# Altium schematic symbol library Miner_8TH.SchLib: 26 symbols
Pins are listed as number, name and electrical type; pins without a type are passive.

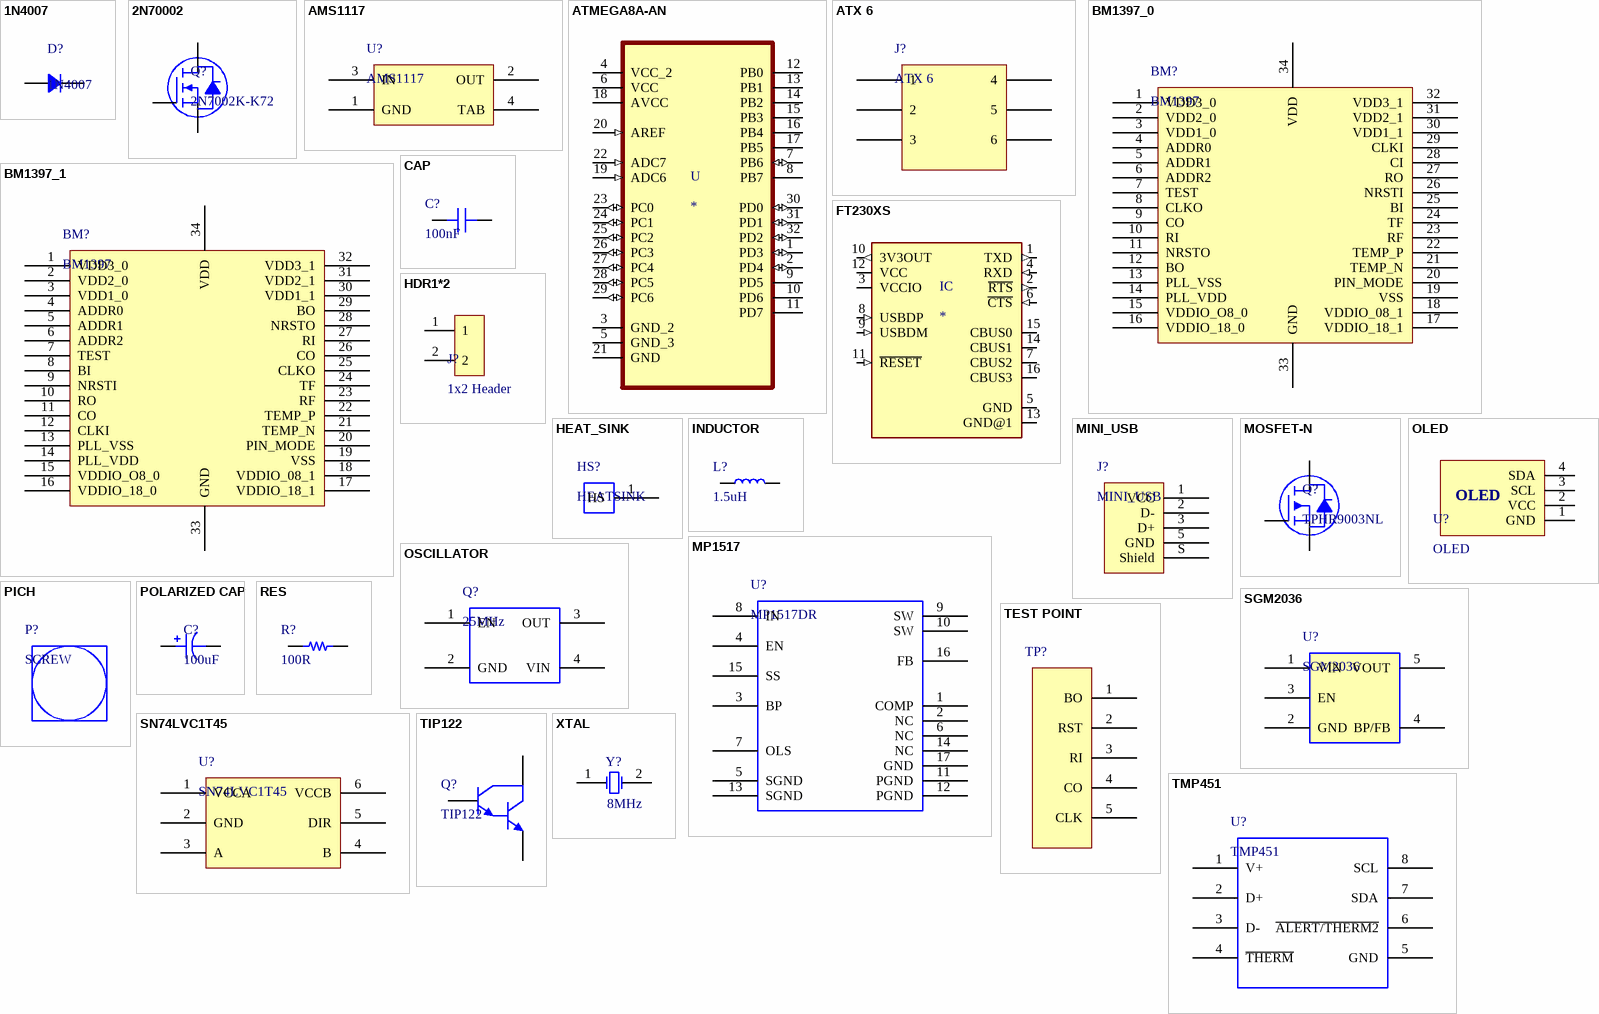
[diagram p0: symbols 1N4007 to XTAL]

## 1N4007
designator D?
footprint m7
pins: 1, 2

## 2N70002
designator Q?, comment 2N7002K-K72
footprint SOT-23_H (SOT23, 3-Leads, Body 2.9x1.3mm, Pitch 0.95mm, Lead Span 2.5mm, IPC Medium Density)
pins: 1, 2, 3

## AMS1117
designator U?
footprint AMS1117
pins: 1 GND, 2 OUT, 3 IN, 4 TAB

## ATMEGA8A-AN
designator U
AVR AVRÂ® ATmega Microcontroller IC 8-Bit 16MHz 8KB (4K x 16) FLASH 32-TQFP (7x7); MF: Microchip; MP: ATMEGA8A-AN; SnapEDA_Link: https://www.snapeda.com/parts/ATMEGA8A-AN/Microchip/view-part/883838/?ref=snap; Value: *; DigiKey-Purchase-URL: https://snapeda.com/shop?store=DigiKey&id=883838; Package: TQFP-32 Microchip; Price: None; Availability: Warning; Mouser-Purchase-URL: https://snapeda.com/shop?store=Mouser&id=883838
footprint QFP80P900X900X120-32N
pins: 1 PD3 (io), 2 PD4 (io), 3 GND_2, 4 VCC_2 (power), 5 GND_3, 6 VCC (power), 7 PB6 (io), 8 PB7, 9 PD5, 10 PD6, 11 PD7, 12 PB0, 13 PB1, 14 PB2, 15 PB3, 16 PB4, 17 PB5, 18 AVCC (power), 19 ADC6 (in), 20 AREF (in), 21 GND, 22 ADC7 (in), 23 PC0 (io), 24 PC1 (io), 25 PC2 (io), 26 PC3 (io), 27 PC4 (io), 28 PC5 (io), 29 PC6 (io), 30 PD0 (io), 31 PD1 (io), 32 PD2 (io)

## ATX 6
designator J?
footprint ATX 6
pins: 1, 2, 3, 4, 5, 6

## BM1397_0
designator BM?, comment BM1397
footprint BM1387
pins: 1 VDD3_0, 2 VDD2_0, 3 VDD1_0, 4 ADDR0, 5 ADDR1, 6 ADDR2, 7 TEST, 8 CLKO, 9 CO, 10 RI, 11 NRSTO, 12 BO, 13 PLL_VSS, 14 PLL_VDD, 15 VDDIO_O8_0, 16 VDDIO_18_0, 17 VDDIO_18_1, 18 VDDIO_08_1, 19 VSS, 20 PIN_MODE, 21 TEMP_N, 22 TEMP_P, 23 RF, 24 TF, 25 BI, 26 NRSTI, 27 RO, 28 CI, 29 CLKI, 30 VDD1_1, 31 VDD2_1, 32 VDD3_1, 33 GND, 34 VDD

## BM1397_1
designator BM?, comment BM1397
footprint BM1387
pins: 1 VDD3_0, 2 VDD2_0, 3 VDD1_0, 4 ADDR0, 5 ADDR1, 6 ADDR2, 7 TEST, 8 BI, 9 NRSTI, 10 RO, 11 CO, 12 CLKI, 13 PLL_VSS, 14 PLL_VDD, 15 VDDIO_O8_0, 16 VDDIO_18_0, 17 VDDIO_18_1, 18 VDDIO_08_1, 19 VSS, 20 PIN_MODE, 21 TEMP_N, 22 TEMP_P, 23 RF, 24 TF, 25 CLKO, 26 CO, 27 RI, 28 NRSTO, 29 BO, 30 VDD1_1, 31 VDD2_1, 32 VDD3_1, 33 GND, 34 VDD

## CAP
designator C?, comment 100nF
footprint CAP_SMD_0805
footprint CAP-SMD-0603
pins: 1, 2

## FT230XS
designator IC
USB Bridge, USB to UART USB 2.0 UART Interface 16-SSOP; MP: FT230XS; MF: FTDI, Future; Price: None; Availability: Unavailable; Package: SSOP-16 FTDI; SnapEDA_Link: https://www.snapeda.com/parts/FT230XS/FTDI%2C%20Future%20Technology%20Devices%20International%20Ltd/view-part/433817/?ref=snap; Value: *
footprint SSOP16
pins: 1 TXD (out), 2 ~{RTS} (out), 3 VCCIO (power), 4 RXD (in), 5 GND (power), 6 ~{CTS} (in), 7 CBUS2 (io), 8 USBDP (in), 9 USBDM (in), 10 3V3OUT (out), 11 ~{RESET} (in), 12 VCC (power), 13 GND@1 (power), 14 CBUS1 (io), 15 CBUS0 (io), 16 CBUS3 (io)

## HDR1*2
designator J?, comment 1x2 Header
Headers & Wire Housings 2 PIN F/LK HEADER; Manufacturer: Molex; Number of Positions: 2; Gender: Male; Contact Resistance: 10mR; Current Rating: 4A; Voltage Rating: 250V; Pitch: 2.54mm; Glow Wire Compliant: Non-compliant; Supplier 1: Digi-Key; Manufacturer Part Number: 22-29-2021; Stock 1: 17589; Pricing 1: 1=0.46, 10=0.431, 100=0.3014, 500=0.2583, 1000=0.21525, 5000=0.1845, 10000=0.1722 (USD); Mount: Through Hole; Housing Colour: White; Colour: White; Housing Material: Nylon; Contact Plating: Gold; Contact Material: Brass; Min Operating Temperature: 0°C; Max Operating Temperature: 75°C; Number of Rows: 1; Packaging: Bulk; Termination: Through Hole; Orientation: Straight; Number of Contacts: 2; Package Quantity: 2500; Number of Circuits: 2; Max Current Rating: 4A; Max Voltage Rating (AC): 250V; Voltage Rating (DC): 250V; Length: 12.7mm; Height: 11.7mm; Depth: 5.8mm; Radiation Hardening: No; Lead Free: Lead Free; REACH SVHC: Unknown; Halogen Free: Low Halogen; Flammability Rating: UL94 V-0; ComponentLink1URL: https://datasheet.ciiva.com/30169/113840022292021-pcb-headers-30169888.pdf; ComponentLink1Description: https://datasheet.ciiva.com/30169/113840022292021-pcb-headers-30169888.pdf; ComponentLink2URL: https://datasheet.ciiva.com/19472/879588-19472951.pdf; ComponentLink2Description: https://datasheet.ciiva.com/19472/879588-19472951.pdf; ComponentLink3URL: https://datasheet.ciiva.com/11752/0900766b80d5fb7a-11752634.pdf; ComponentLink3Description: https://datasheet.ciiva.com/11752/0900766b80d5fb7a-11752634.pdf; ComponentLink4URL: https://datasheet.ciiva.com/5153/0022292021-pcb-headers-159390-5153053.pdf; ComponentLink4Description: https://datasheet.ciiva.com/5153/0022292021-pcb-headers-159390-5153053.pdf; ComponentLink5URL: https://datasheet.ciiva.com/9468/0022292021-pcb-headers-9468301.pdf; ComponentLink5Description: https://datasheet.ciiva.com/9468/0022292021-pcb-headers-9468301.pdf; ComponentLink6URL: https://datasheet.ciiva.com/25908/0022292021-pcb-headers-25908286.pdf; ComponentLink6Description: https://datasheet.ciiva.com/25908/0022292021-pcb-headers-25908286.pdf; Supplier Part Number 1: WM2744-ND; Category: Connectors
footprint HDR1*2
pins: 1, 2

## HEAT_SINK
designator HS?, comment HEATSINK
footprint HEAT_SINK
pins: 1 HS

## INDUCTOR
designator L?, comment 1.5uH
footprint IND
pins: 1, 2

## MINI_USB
designator J?
footprint Mini_usb
pins: 1 VCC, 2 D-, 3 D+, 5 GND, S Shield

## MOSFET-N
designator Q?, comment TPHR9003NL
footprint ADVANCE SOP
pins: D, G, S

## MP1517
designator U?, comment MP1517DR
footprint QFN80P500X500X80-17N
pins: 1 COMP, 2 NC, 3 BP, 4 EN, 5 SGND, 6 NC, 7 OLS, 8 IN, 9 SW, 10 SW, 11 PGND, 12 PGND, 13 SGND, 14 NC, 15 SS, 16 FB, 17 GND

## OLED
designator U?
footprint OLED
pins: 1 GND, 2 VCC, 3 SCL, 4 SDA

## OSCILLATOR
designator Q?, comment 25MHz
footprint XTALL
pins: 1 EN, 2 GND, 3 OUT, 4 VIN

## PICH
designator P?, comment SCREW
footprint PICH

## POLARIZED CAP
designator C?, comment 100uF
footprint CAP-TAN-CASE-B
footprint CAP-TAN-CASE-E
footprint CAP-TAN-CASE-A
footprint CAP ALUM 10.3MM (Aluminum Electrolytic Capacitor, Body 10.30x10.30x10.50mm, IPC Low Density)
pins: 1, 2

## RES
designator R?, comment 100R
footprint RES-SMD-1210
footprint RES-SMD-1206
footprint RES-SMD-0402
footprint RES-SMD-0603
pins: 1, 2

## SGM2036
designator U?
footprint SOT23-5PIN
pins: 1 VIN, 2 GND, 3 EN, 4 BP/FB, 5 VOUT

## SN74LVC1T45
designator U?
footprint SOT23-6PIN
pins: 1 VCCA, 2 GND, 3 A, 4 B, 5 DIR, 6 VCCB

## TEST POINT
designator TP?
footprint TEST_POINT
pins: 1 BO, 2 RST, 3 RI, 4 CO, 5 CLK

## TIP122
designator Q?
Transistor NPN Silicon Darlington Bvceo=100V IC=5A TO-220 Case With Base-emitter Shunt Resistors; Manufacturer: STMicroelectronics; hFE Min: 1000; Max Power Dissipation: 65W; Collector Emitter Voltage (VCEO): 100V; Number of Elements: 1; Emitter Base Voltage (VEBO): 5V; Max Collector Current: 5A; Collector Emitter Saturation Voltage: 2V; Element Configuration: Single; Power Dissipation: 2W; Collector-emitter Voltage-Max: 4V; Supplier 1: Newark; Manufacturer Part Number: TIP122; RoHS: Yes; Category: BJTs; Stock 1: 2959; Pricing 1: 1=0.98100, 10=0.86500, 100=0.66300, 500=0.52400, 1000=0.41800, 2500=0.39400 (USD); Mount: Through Hole; Case/Package: TO-220; Number of Pins: 3; Weight: 0.211644oz; Contact Plating: Tin; Min Operating Temperature: -65°C; Max Operating Temperature: 150°C; Packaging: Rail/Tube; Package Quantity: 50; Polarity: NPN; Collector Base Voltage (VCBO): 100V; Collector Emitter Breakdown Voltage: 100V; Voltage Rating (DC): 100V; Current Rating: 5A; Series: -; Length: 10.4mm; Width: 4.6mm; Height: 9.15mm; Radiation Hardening: No; REACH SVHC: No SVHC; Lead Free: Lead Free; RoHS Compliant: Yes; ComponentLink1URL: https://datasheet.ciiva.com/15139/getdatasheetpartid-89197-15139978.pdf?src-supplier=Verical; ComponentLink1Description: https://datasheet.ciiva.com/15139/getdatasheetpartid-89197-15139978.pdf?src-supplier=Verical; ComponentLink2URL: https://datasheet.ciiva.com/29323/155442-da-01-en-transistor-tip122-stm-29323616.pdf?src-supplier=Conrad; ComponentLink2Description: https://datasheet.ciiva.com/29323/155442-da-01-en-transistor-tip122-stm-29323616.pdf?src-supplier=Conrad; ComponentLink3URL: https://datasheet.ciiva.com/977/cd00000911-977180.pdf?src-supplier=Digi-Key; ComponentLink3Description: https://datasheet.ciiva.com/977/cd00000911-977180.pdf?src-supplier=Digi-Key; ComponentLink4URL: https://datasheet.ciiva.com/14546/70013738-14546039.pdf?src-supplier=Allied+Electronics; ComponentLink4Description: https://datasheet.ciiva.com/14546/70013738-14546039.pdf?src-supplier=Allied+Electronics; ComponentLink5URL: https://datasheet.ciiva.com/7971/1690291-7971846.pdf?src-supplier=Element14; ComponentLink5Description: https://datasheet.ciiva.com/7971/1690291-7971846.pdf?src-supplier=Element14; Supplier Part Number 1: 34X3384
footprint TIP122
pins: 1 B, 2 C, 3 E

## TMP451
designator U?
footprint SON50P200X200X80-9N
pins: 1 V+, 2 D+, 3 D-, 4 ~{THERM}, 5 GND, 6 ~{ALERT/THERM2}, 7 SDA, 8 SCL

## XTAL
designator Y?, comment 8MHz
Crystal Oscillator; Published: 8-Jun-2000; LatestRevisionDate: 17-Jul-2002; LatestRevisionNote: Re-released for DXP Platform.; PackageReference: R38; Publisher: Altium Limited; PackageDescription: Crystal, Thru-Hole; 2 Leads; Body 3.1 x 8.2 mm (Dia.xH); Value: 8MHz
footprint XTAL_SMD
pins: 1 OSC1, 2 OSC2